# Altium schematic symbol library LM2576S-ADJ_NOPB.Schlib: 1 symbol
Pins are listed as number, name and electrical type; pins without a type are passive.

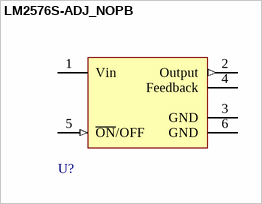
[diagram p0: symbol LM2576S-ADJ_NOPB]

## LM2576S-ADJ_NOPB
designator U?
3A Buck Regulator
pins: 1 Vin (power), 2 Output (out), 3 GND (power), 4 Feedback, 5 ~{ON}/OFF (in), 6 GND (power)